# Altium schematic symbol library Step_Motor_Driver.SchLib: 15 symbols
Pins are listed as number, name and electrical type; pins without a type are passive.

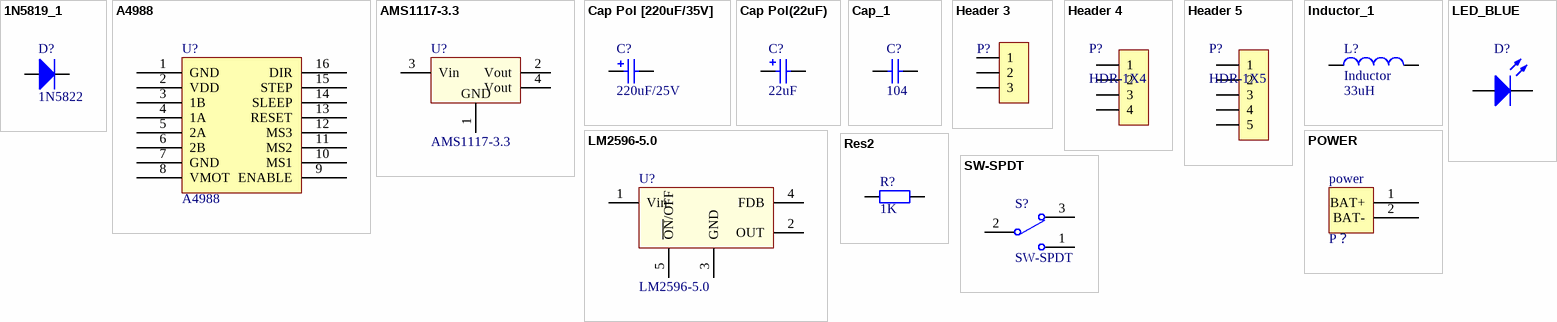
[diagram p0: symbols 1N5819_1 to SW-SPDT]

## 1N5819_1
designator D?, comment 1N5822
二极管
footprint SS14
footprint Diode
pins: 1, 2

## A4988
designator U?
A4988 Module
footprint A4988
pins: 1 GND, 2 VDD, 3 1B, 4 1A, 5 2A, 6 2B, 7 GND, 8 VMOT, 9 ENABLE, 10 MS1, 11 MS2, 12 MS3, 13 RESET, 14 SLEEP, 15 STEP, 16 DIR

## AMS1117-3.3
designator U?
footprint SOT-223
pins: 1 GND, 2 Vout, 3 Vin, 4 Vout

## Cap Pol [220uF/35V]
designator C?, comment 220uF/25V
220uF/35V
footprint CAP POL [25V]
pins: 1, 2

## Cap Pol(22uF)
designator C?  (value not drawn)
footprint CAP POL [16V]
footprint CAP[1210]
footprint CAP[1206]
footprint CAP[6332]
footprint CAP[7432]
pins: 1, 2
text: 22uF

## Cap_1
designator C?, comment Cap  (value not drawn)
footprint 0805C
pins: 1, 2
text: 104

## Header 3
designator P?, comment HDR-1X3  (value not drawn)
3P接插件; 版权归属: 源创客; BOM名称: 3P接插件; 学习资源: www.ooocke.com
footprint XH2.54-WI-3P (接插件，3P)
footprint XH2.54-LI-3P (接插件，3P)
footprint HDR2.54-LI-3P (排针，3脚)
footprint HDR2.54-M-LI-3P (排母，3脚)
footprint HDR2.54-WI-3P (弯脚排针，3脚)
footprint HDR2.54-WS-3P (3P卧式贴片排针2.54)
footprint HDR2.54-Y-LI-3P (圆孔排母，3脚)
footprint HDR2.54-M-WS-3P (3P卧式贴片排母2.54)
footprint KF2510-LI-3P (接插件/2A)
footprint XH2.54-WS-3P (长：12.5mm，宽：8mm，高：6.1mm)
footprint XH2.54-LS-3P (长：12.5mm，宽：6mm，高：8.3mm)
footprint KF2EDGK-2.54-LI-3P (长：9.52mm，宽：8.1mm，高：10.1mm)
footprint KF2EDGK-2.54-WI-3P (长：9.52mm，宽：10.1mm，高：8.1mm)
pins: 1, 2, 3

## Header 4
designator P?, comment HDR-1X4
4P接插件; 版权归属: 源创客; BOM名称: 4P接插件; 学习资源: www.ooocke.com
footprint XH2.54-WI-4P (接插件，4P)
footprint XH2.54-LI-4P (接插件，4P)
footprint HDR2.54-LI-4P (排针，4脚)
footprint HDR2.54-M-LI-4P (排母，4脚)
footprint HDR2.54-WI-4P (弯脚排针，4脚)
footprint HDR2.54-WS-4P (4P卧式贴片排针2.54)
footprint HDR2.54-Y-LI-4P (圆孔排母，4脚)
footprint HDR2.54-M-WS-4P (4P卧式贴片排母2.54)
footprint KF2510-LI-4P (接插件/2A)
footprint XH2.54-WS-4P (长：15mm，宽：8mm，高：6.1mm)
footprint XH2.54-LS-4P (长：15mm，宽：6mm，高：8.3mm)
footprint KF2EDGK-2.54-LI-4P (长：12.06mm，宽：8.1mm，高：10.1mm)
footprint KF2EDGK-2.54-WI-4P (长：12.06mm，宽：10.1mm，高：8.1mm)
pins: 1, 2, 3, 4

## Header 5
designator P?, comment HDR-1X5
5P接插件; 版权归属: 源创客; BOM名称: 5P接插件; 学习资源: www.ooocke.com
footprint XH2.54-WI-5P (接插件，5P)
footprint XH2.54-LI-5P (接插件，5P)
footprint HDR2.54-LI-5P (排针，5脚)
footprint HDR2.54-M-LI-5P (排母，5脚)
footprint HDR2.54-WI-5P (弯脚排针，5脚)
footprint HDR2.54-WS-5P (5P卧式贴片排针2.54)
footprint HDR2.54-Y-LI-5P (圆孔排母，5脚)
footprint HDR2.54-M-WS-5P (5P卧式贴片排母2.54)
footprint KF2510-LI-5P (接插件/2A)
footprint XH2.54-WS-5P (长：17.5mm，宽：8mm，高：6.1mm)
footprint XH2.54-LS-5P (长：17.5mm，宽：6mm，高：8.3mm)
footprint KF2EDGK-2.54-LI-5P (长：14.6mm，宽：8.1mm，高：10.1mm)
footprint KF2EDGK-2.54-WI-5P (长：14.6mm，宽：10.1mm，高：8.1mm)
pins: 1, 2, 3, 4, 5

## Inductor_1
designator L?, comment Inductor
footprint Inductor_T10uH
footprint INDC1608L (Chip Inductor, Body 1.6x0.8mm, IPC High Density)
footprint L-CD31
footprint L-CD32
footprint L-CD42
footprint L-CD43
footprint L-CD52
footprint L-CD53
footprint L-CD54
footprint L-CD73
footprint L-CD75
footprint L-CD104
pins: 1, 2
text: 33uH

## LED_BLUE
designator D?
LED_BLUE
footprint 0805LED1
pins: 1 A, 2 K

## LM2596-5.0
designator U?
IC
footprint TO-263-5
pins: 1 Vin, 2 OUT, 3 GND, 4 FDB, 5 ~{ON}/OFF

## POWER
designator P？, comment power
电源输入
footprint power
pins: 1 BAT+, 2 BAT-

## Res2
designator R?  (value not drawn)
footprint RES[0805]
footprint RES[0603]
footprint RES[0402]
pins: 1, 2
text: 1K

## SW-SPDT
designator S?
SPDT Subminiature Toggle Switch, Right Angle Mounting, Vertical Actuation; Published: 24-Mar-1999; LatestRevisionDate: 17-Dec-2003; LatestRevisionNote: Schematic revised, PCB Footprint replaced.; DatasheetVersion: 05-Dec-2000; PackageReference: TL36WW15050; Publisher: Altium Limited; PackageDescription: Switch; 4 Leads; ComponentLink1Description: Manufacturer Link; ComponentLink1URL: http://www.apem.com
footprint key
pins: 1, 2, 3